# Altium schematic symbol library SCH - POWER - MODULE - EVISUN B0505.SCHLIB: 1 symbol
Pins are listed as number, name and electrical type; pins without a type are passive.

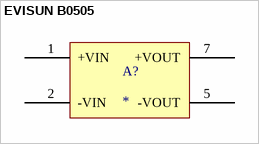
[diagram p0: symbol EVISUN B0505]

## EVISUN B0505
designator A?
pins: 1 +VIN, 2 -VIN, 5 -VOUT, 7 +VOUT